# Altium schematic symbol library VGA-Module-SCH-LIB.SchLib: 36 symbols (part 2 of 2)
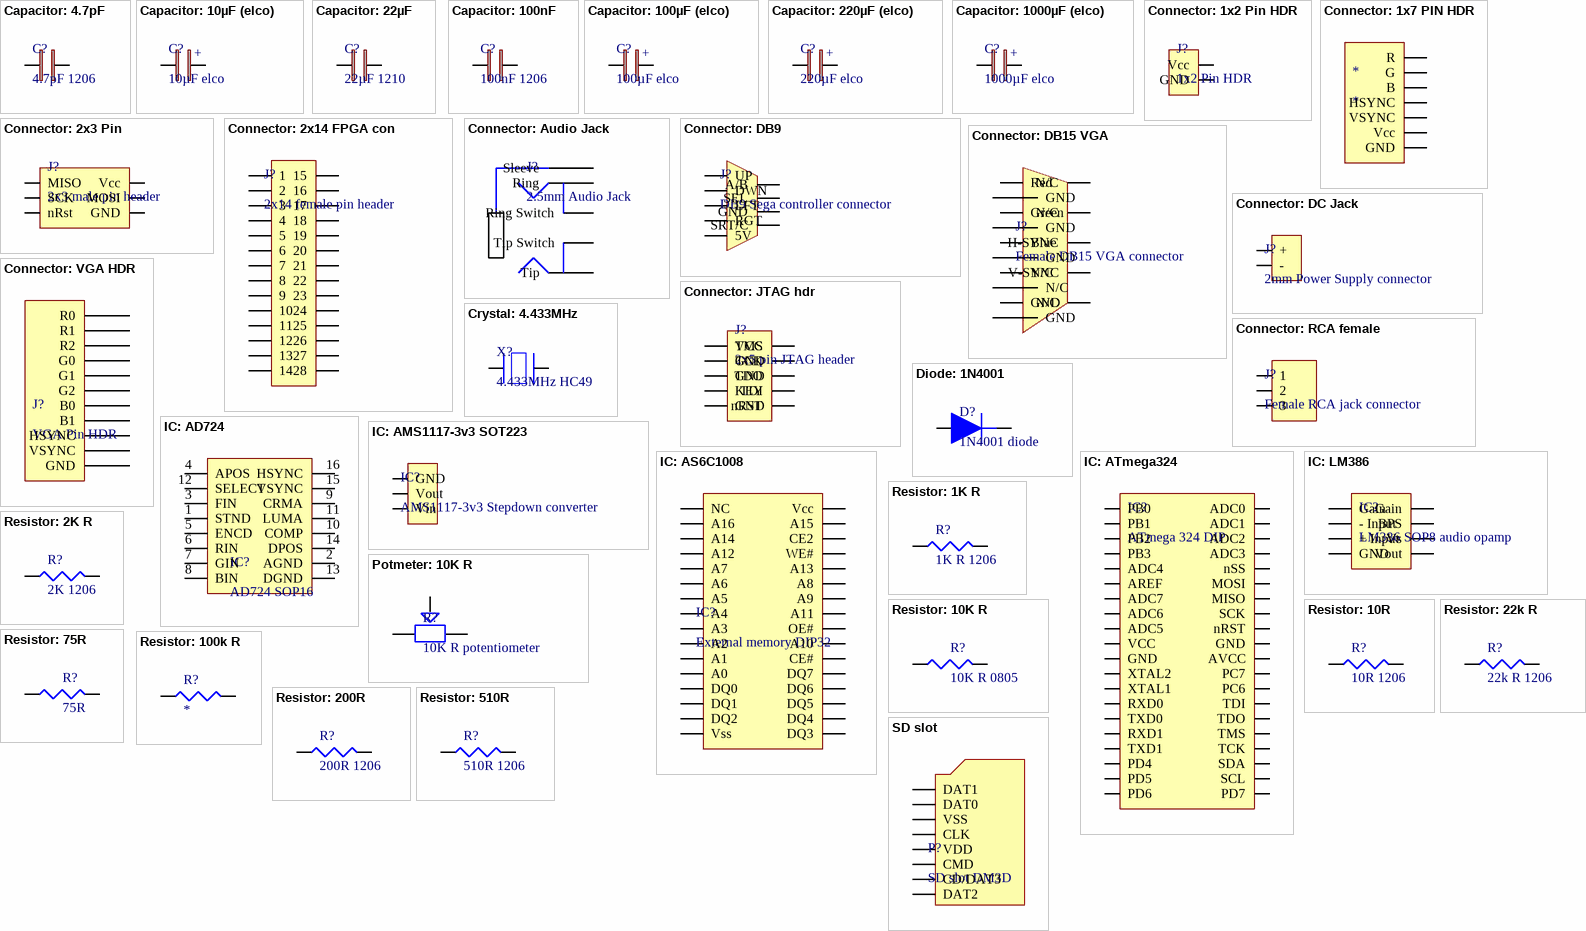
[diagram p1: symbols Capacitor: 4.7pF to SD slot]

## Resistor: 100k R
designator R?
Res Thick Film 2512 100K Ohm 1% 1W ±100ppm/°C Molded SMD SMD Blister T/R; Manufacturer: Vishay; Manufacturer Part Number: CRCW2512100KFKEG; Resistance: 100kR; Voltage Rating: 500V; Supplier 1: Farnell; RoHS: Yes; Category: Chip SMD Resistors; Stock 1: 11; Pricing 1: 5=0,52700, 50=0,20600, 250=0,18200, 500=0,16000, 1000=0,13600 (EUR); Case/Package: 2512; Number of Pins: 2; Case Code (Imperial): 2512; Case Code (Metric): 6432; Contact Plating: Tin; Weight: 0.001429oz; Size Code: 2512; Min Operating Temperature: -55°C; Max Operating Temperature: 155°C; Packaging: Tape and Reel; Tolerance: 1%; Resistor Type: Thick Film; Number of Terminations: 2; Temperature Coefficient: 100ppm/°C; Max Power Dissipation: 1W; Power Rating: 1W; Features: Automotive AEC-Q200; Series: CRCW; Package Quantity: 2000; Voltage Rating (DC): 500V; Construction: Rectangular; Resistance Tolerance: 1%; Termination: SMD/SMT; Technology: THICK FILM; Length: 6.3mm; Width: 0.124inch; Height: 0.6mm; Depth: 3.15mm; Radiation Hardening: No; RoHS Compliant: Yes; Lead Free: Lead Free; Military Standard: Not; ComponentLink1URL: https://datasheet.ciiva.com/11812/0900766b80d98bd1-11812470.pdf?src-supplier=Rs; ComponentLink1Description: https://datasheet.ciiva.com/11812/0900766b80d98bd1-11812470.pdf?src-supplier=Rs; ComponentLink2URL: https://datasheet.ciiva.com/7702/125364-7702540.pdf?src-supplier=Element14; ComponentLink2Description: https://datasheet.ciiva.com/7702/125364-7702540.pdf?src-supplier=Element14; ComponentLink3URL: https://datasheet.ciiva.com/22673/1533075-22673098.pdf?src-supplier=Element14; ComponentLink3Description: https://datasheet.ciiva.com/22673/1533075-22673098.pdf?src-supplier=Element14; ComponentLink4URL: https://datasheet.ciiva.com/22673/1533075-22673097.pdf?src-supplier=Element14; ComponentLink4Description: https://datasheet.ciiva.com/22673/1533075-22673097.pdf?src-supplier=Element14; ComponentLink5URL: https://datasheet.ciiva.com/46422/1794174-46422248.pdf?src-supplier=Element14; ComponentLink5Description: https://datasheet.ciiva.com/46422/1794174-46422248.pdf?src-supplier=Element14; ComponentLink6URL: https://datasheet.ciiva.com/16761/70201119-16761030.pdf?src-supplier=Allied+Electronics; ComponentLink6Description: https://datasheet.ciiva.com/16761/70201119-16761030.pdf?src-supplier=Allied+Electronics; ComponentLink7URL: https://datasheet.ciiva.com/5551/dcrcwe3-109170-5551829.pdf?src-supplier=Mouser; ComponentLink7Description: https://datasheet.ciiva.com/5551/dcrcwe3-109170-5551829.pdf?src-supplier=Mouser; ComponentLink8URL: https://datasheet.ciiva.com/16494/dcrcwe3-16494520.pdf?src-supplier=Future+Electronics; ComponentLink8Description: https://datasheet.ciiva.com/16494/dcrcwe3-16494520.pdf?src-supplier=Future+Electronics; ComponentLink9URL: https://datasheet.ciiva.com/8979/dcrcwe3-8979895.pdf?src-supplier=Avnet; ComponentLink9Description: https://datasheet.ciiva.com/8979/dcrcwe3-8979895.pdf?src-supplier=Avnet; Supplier Part Number 1: 2616764
pins: 1, 2

## Resistor: 200R
designator R?, comment 200R 1206
Surface Mount Thick Film Resistor, AEC-Q200 ERJ Series, 200 ohm, 250 mW, - 1%, 200 V; Manufacturer: Panasonic; Manufacturer Part Number: ERJ-U08F2000V; Temperature Coefficient: 100ppm/°C; Power Rating: 250mW; Voltage Rating: 200V; Current Rating: 2A; Supplier 1: Rs; RoHS: Yes; Category: Chip SMD Resistors; Stock 1: 6900; Pricing 1: 4000=0,04900 (EUR); Case/Package: 1206; Case Code (Imperial): 1206; Case Code (Metric): 3216; Weight: 0.000571oz; Min Operating Temperature: -55°C; Max Operating Temperature: 155°C; Packaging: Tape and Reel; Resistance: 200R; Tolerance: 1%; Resistor Type: Thick Film; Series: ERJ-U08; Termination: SMD/SMT; Package Quantity: 5000; Voltage Rating (DC): 200V; Resistance Tolerance: 1%; Technology: THICK FILM; Length: 3.2mm; Width: 1.6mm; Height: 0.6mm; Depth: 1.6mm; RoHS Compliant: Yes; Reach SVHC Compliant: Yes; ComponentLink1URL: https://datasheet.ciiva.com/7891/1638979-7891542.pdf?src-supplier=Element14; ComponentLink1Description: https://datasheet.ciiva.com/7891/1638979-7891542.pdf?src-supplier=Element14; ComponentLink2URL: https://datasheet.ciiva.com/24195/ras-erj-u-267552-24195551.pdf?src-supplier=Mouser; ComponentLink2Description: https://datasheet.ciiva.com/24195/ras-erj-u-267552-24195551.pdf?src-supplier=Mouser; Supplier Part Number 1: 1723988
footprint Resistor 1206
pins: 1, 2

## Resistor: 510R
designator R?, comment 510R 1206
Res Thick Film 1206 510 Ohm 1% 1/4W ±100ppm/°C Molded SMD SMD Paper T/R; Manufacturer: Vishay Dale; Manufacturer Part Number: CRCW1206510RFKEB; Power Rating: 250mW; Voltage Rating: 200V; Supplier 1: Digi-Key; RoHS: Yes; Category: Chip SMD Resistors; Pricing 1: 20000=0,00965 (USD); Case/Package: 1206; Case Code (Imperial): 1206; Case Code (Metric): 3216; Contact Plating: Tin; Weight: 0.000353oz; Min Operating Temperature: -55°C; Max Operating Temperature: 155°C; Resistance: 510R; Tolerance: 1%; Temperature Coefficient: 100ppm/°C; Packaging: Tape and Reel; Resistor Type: Thick Film; Series: CRCW; Number of Terminations: 2; Max Power Dissipation: 250mW; Package Quantity: 10000; Termination: SMD/SMT; Features: Automotive AEC-Q200; Length: 0.126inch; Width: 0.063inch; Height: 0.024inch; Radiation Hardening: No; RoHS Compliant: Yes; Lead Free: Lead Free; ComponentLink1URL: https://datasheet.ciiva.com/8931/dcrcwe3-8931628.pdf?src-supplier=Avnet; ComponentLink1Description: https://datasheet.ciiva.com/8931/dcrcwe3-8931628.pdf?src-supplier=Avnet; ComponentLink2URL: https://datasheet.ciiva.com/5583/dcrcwe3-109170-5583982.pdf?src-supplier=Mouser; ComponentLink2Description: https://datasheet.ciiva.com/5583/dcrcwe3-109170-5583982.pdf?src-supplier=Mouser; Supplier Part Number 1: CRCW1206510RFKEB-ND
footprint Resistor 1206
pins: 1, 2

## SD slot
designator P?, comment SD slot DM3D
Memory Card Connectors MICRO SD CD CONN STD SMT PUSHPULL; Manufacturer: Hirose; Manufacturer Part Number: DM3D-SF; Gender: Female; Contact Resistance: 100mR; Current Rating: 500mA; Voltage Rating (AC): 125V; Number of Contacts: 8; Insulation Resistance: 1GR; Pitch: 1.1mm; Supplier 1: Farnell; RoHS: Yes; Category: Memory Connectors; Stock 1: 7247; Pricing 1: 1=1,80000, 10=1,48000, 100=1,28000, 500=1,18000, 1000=0,93700, 2500=0,91800 (EUR); Mount: Surface Mount; Contact Material: Copper Alloy,Copper; Contact Plating: Gold; Housing Material: Polymer; Min Operating Temperature: -25°C; Max Operating Temperature: 85°C; Number of Rows: 1; Package Quantity: 1; Packaging: Tape and Reel; Max Current Rating: 500mA; Connector Type: Connector; Termination: Solder; Orientation: Right Angle; Series: DM3; Max Voltage Rating (AC): 125V; Length: 11.95mm; Width: 11.95mm; Depth: 11.45mm; Radiation Hardening: No; Lead Free: Lead Free; Flammability Rating: UL94 V-0; RoHS Compliant: Yes; Reach SVHC Compliant: Yes; ComponentLink1URL: https://datasheet.ciiva.com/1105/1697167-1105105.pdf?src-supplier=Element14; ComponentLink1Description: https://datasheet.ciiva.com/1105/1697167-1105105.pdf?src-supplier=Element14; ComponentLink2URL: https://datasheet.ciiva.com/11755/0900766b80fd13c1-11755152.pdf?src-supplier=Rs; ComponentLink2Description: https://datasheet.ciiva.com/11755/0900766b80fd13c1-11755152.pdf?src-supplier=Rs; ComponentLink3URL: https://datasheet.ciiva.com/16287/e60900232-16287615.pdf?src-supplier=Future+Electronics; ComponentLink3Description: https://datasheet.ciiva.com/16287/e60900232-16287615.pdf?src-supplier=Future+Electronics; ComponentLink4URL: https://datasheet.ciiva.com/15174/getdatasheetpartid-432464-15174822.pdf?src-supplier=Verical; ComponentLink4Description: https://datasheet.ciiva.com/15174/getdatasheetpartid-432464-15174822.pdf?src-supplier=Verical; ComponentLink5URL: https://datasheet.ciiva.com/3122/e60900232-3122537.pdf?src-supplier=Avnet; ComponentLink5Description: https://datasheet.ciiva.com/3122/e60900232-3122537.pdf?src-supplier=Avnet; ComponentLink6URL: https://datasheet.ciiva.com/683/e60900232-683362.pdf?src-supplier=Digi-Key; ComponentLink6Description: https://datasheet.ciiva.com/683/e60900232-683362.pdf?src-supplier=Digi-Key; ComponentLink7URL: https://datasheet.ciiva.com/683/e60900232-683363.pdf?src-supplier=Digi-Key; ComponentLink7Description: https://datasheet.ciiva.com/683/e60900232-683363.pdf?src-supplier=Digi-Key; ComponentLink8URL: https://datasheet.ciiva.com/683/e60900232-683364.pdf?src-supplier=Digi-Key; ComponentLink8Description: https://datasheet.ciiva.com/683/e60900232-683364.pdf?src-supplier=Digi-Key; ComponentLink9URL: https://datasheet.ciiva.com/22627/1697167-22627974.pdf?src-supplier=Farnell; ComponentLink9Description: https://datasheet.ciiva.com/22627/1697167-22627974.pdf?src-supplier=Farnell; Supplier Part Number 1: 1764377
footprint SD SLOT
pins: 1 DAT2, 2 CD/DAT3, 3 CMD, 4 VDD, 5 CLK, 6 VSS, 7 DAT0, 8 DAT1